# Altium footprint library con-wf.PcbLib: 46 footprints (part 2 of 3)
Each footprint in its own frame and in the unit in brackets; x right, y up, seen from the top. Pads: shape width x height; smd on the part's side, far side on the other; paste and mask are expansions set on the pad; w line width, h text height; cw(c..) or ccw(c..) is an arc to the next point about the centre after c.
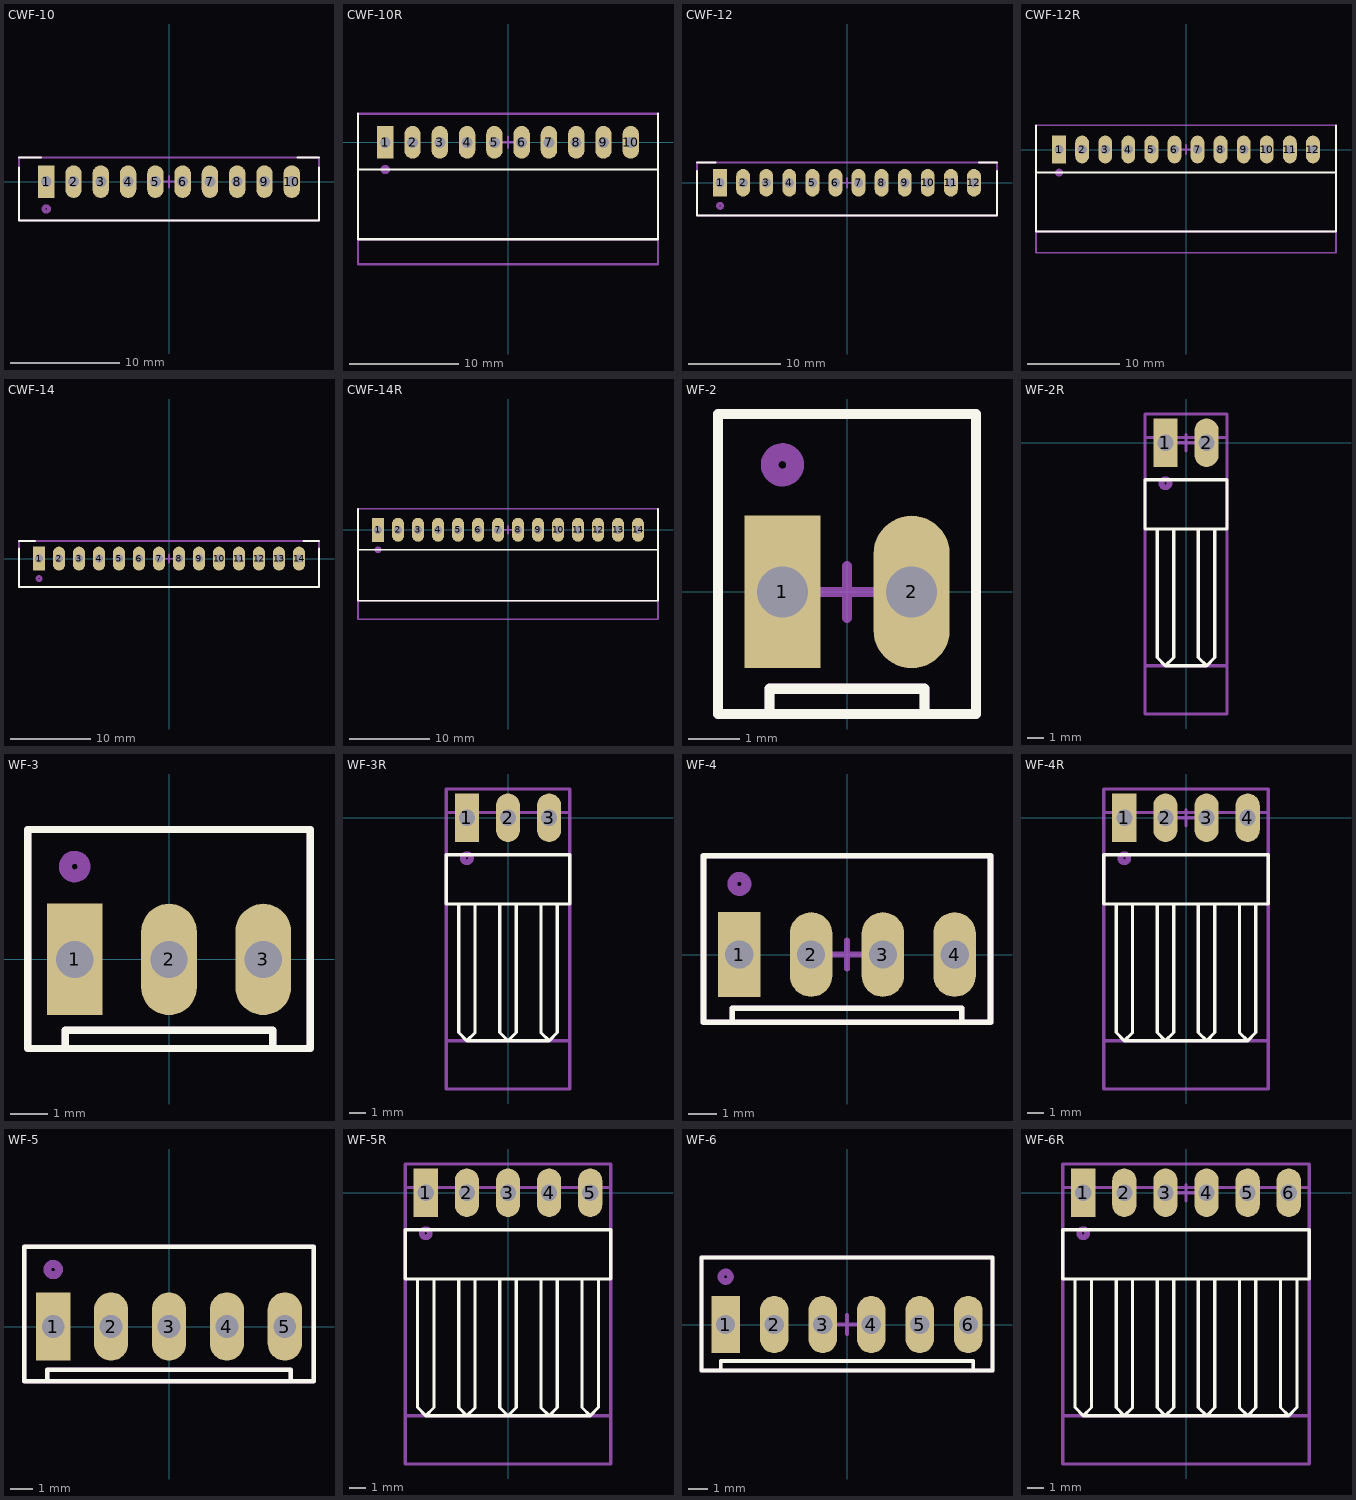
[diagram p1: the footprints below, top view; thin cyan lines are the x and y axes]

## CWF-10 [mm] "DS1069-10MV CONNFLY"
height 7
pads (10):
  rect 1.5x3 hole 1: 1(-11.25,0)
  oval 1.5x3 hole 1: 2(-8.75,0) 3(-6.25,0) 4(-3.75,0) 5(-1.25,0) 6(1.25,0) 7(3.75,0) 8(6.25,0) 9(8.75,0) 10(11.25,0)
Top Overlay:
  lines w0.2: -13.75,-3.55 13.75,-3.55 ; -13.75,-3.55 -13.75,1.3 -13.75,-3.55 ; -13.75,-3.55 13.75,-3.55 ; 13.75,-3.55 13.75,1.3 13.75,-3.55 ; -13.75,2.2 -11.75,2.2 -13.75,2.2 ; 11.81,2.2 13.75,2.2 11.81,2.2
Top Assembly (Mech3):
  circle w0.35: c-11.25,-2.5 r0.25
  rectangle: -11.78,-0.5 -10.749,0.5
  rectangle: -9.28,-0.5 -8.249,0.5
  rectangle: -6.78,-0.5 -5.749,0.5
  rectangle: -4.28,-0.5 -3.249,0.5
  rectangle: -1.78,-0.5 -0.749,0.5
  rectangle: 0.72,-0.5 1.751,0.5
  rectangle: 3.22,-0.5 4.251,0.5
  rectangle: 5.72,-0.5 6.751,0.5
  rectangle: 8.22,-0.5 9.251,0.5
  rectangle: 10.72,-0.5 11.751,0.5
  lines w0.2: -13.75,-3.55 -13.75,2.2 13.75,2.2 13.75,-3.55 -13.75,-3.55
Top Courtyard:
  lines w0.2: -13.75,-3.55 13.75,-3.55 ; -13.75,-3.55 -1.25,-3.55 -13.75,-3.55 ; -13.75,-3.55 -13.75,2.2 ; -13.75,-3.55 13.75,-3.55 ; -13.75,-3.55 -13.75,2.2 ; -13.75,2.2 13.75,2.2 ; -13.75,2.2 13.75,2.2 ; 13.75,-3.55 13.75,2.2 ; 13.75,-3.55 13.75,2.2 ; -0.508,0 0.508,0 -0.508,0 ; 0,-0.508 0,0.508 0,-0.508
3D body "DS1069-10 CWF-10.stp": height 7, standoff -3.5, extent -13.75,-3.55 13.75,2.2

## CWF-10R [mm] "DS1069-10MR CONNFLY"
height 5.75
pads (10):
  rect 1.5x3 hole 1: 1(-11.25,0)
  oval 1.5x3 hole 1: 2(-8.75,0) 3(-6.25,0) 4(-3.75,0) 5(-1.25,0) 6(1.25,0) 7(3.75,0) 8(6.25,0) 9(8.75,0) 10(11.25,0)
Top Overlay:
  lines w0.2: -13.75,-2.5 13.75,-2.5 ; -13.75,2.62 -13.75,-8.88 13.75,-8.88 13.75,2.62
Top Assembly (Mech3):
  circle w0.35: c-11.25,-2.5 r0.25
  lines w0.2: -13.75,-8.88 13.75,-8.88 13.75,2.62 -13.75,2.62 -13.75,-8.88
Top Courtyard:
  lines w0.2: -0.508,0 0.508,0 ; 0,-0.508 0,0.508 ; -13.75,-11.176 13.75,-11.176 13.75,2.62 -13.75,2.62 -13.75,-11.176
3D body "DS1069-10 CWF-10R.stp": height 5.75, standoff -3.5, extent -13.75,-8.88 13.75,2.62

## CWF-12 [mm] "DS1069-12MV CONNFLY"
height 7
pads (12):
  rect 1.5x3 hole 1: 1(-13.75,0)
  oval 1.5x3 hole 1: 2(-11.25,0) 3(-8.75,0) 4(-6.25,0) 5(-3.75,0) 6(-1.25,0) 7(1.25,0) 8(3.75,0) 9(6.25,0) 10(8.75,0) 11(11.25,0) 12(13.75,0)
Top Overlay:
  lines w0.2: -16.25,1.3 -16.25,-3.55 16.25,-3.55 16.25,1.3 ; -16.25,2.2 -14.25,2.2 ; 14.31,2.2 16.25,2.2
Top Assembly (Mech3):
  circle w0.35: c-13.75,-2.5 r0.25
  rectangle: -14.28,-0.5 -13.249,0.5
  rectangle: -11.78,-0.5 -10.749,0.5
  rectangle: -9.28,-0.5 -8.249,0.5
  rectangle: -6.78,-0.5 -5.749,0.5
  rectangle: -4.28,-0.5 -3.249,0.5
  rectangle: -1.78,-0.5 -0.749,0.5
  rectangle: 0.72,-0.5 1.751,0.5
  rectangle: 3.22,-0.5 4.251,0.5
  rectangle: 5.72,-0.5 6.751,0.5
  rectangle: 8.22,-0.5 9.251,0.5
  rectangle: 10.72,-0.5 11.751,0.5
  rectangle: 13.22,-0.5 14.251,0.5
  lines w0.2: -16.25,-3.55 -16.25,2.2 16.25,2.2 16.25,-3.55 -16.25,-3.55
Top Courtyard:
  lines w0.2: -16.25,-3.55 -16.25,2.2 16.25,2.2 ; -16.25,-3.55 -3.75,-3.55 -16.25,-3.55 ; -16.25,-3.55 16.25,-3.55 ; 16.25,-3.55 16.25,2.2 ; 16.25,-3.55 16.25,2.2 ; -0.508,0 0.508,0 -0.508,0 ; 0,-0.508 0,0.508 0,-0.508
3D body "DS1069-12 CWF-12.stp": height 7, standoff -3.5, extent -16.25,-3.55 16.25,2.2

## CWF-12R [mm] "DS1069-12MR CONNFLY"
height 5.75
pads (12):
  rect 1.5x3 hole 1: 1(-13.75,0)
  oval 1.5x3 hole 1: 2(-11.25,0) 3(-8.75,0) 4(-6.25,0) 5(-3.75,0) 6(-1.25,0) 7(1.25,0) 8(3.75,0) 9(6.25,0) 10(8.75,0) 11(11.25,0) 12(13.75,0)
Top Overlay:
  lines w0.2: -16.25,-2.5 16.25,-2.5 ; -16.25,2.62 -16.25,-8.88 16.25,-8.88 16.25,2.62
Top Assembly (Mech3):
  circle w0.35: c-13.75,-2.5 r0.25
  lines w0.2: -16.25,-8.88 -16.25,2.62 16.25,2.62 16.25,-8.88 -16.25,-8.88
Top Courtyard:
  lines w0.2: -0.508,0 0.508,0 ; 0,-0.508 0,0.508 ; -16.25,-11.176 -16.25,2.62 16.25,2.62 16.25,-11.176 -16.25,-11.176
3D body "DS1069-12 CWF-12R.stp": height 5.75, standoff -3.5, extent -16.25,-8.88 16.25,2.62

## CWF-14 [mm] "DS1069-14MV CONNFLY"
height 7
pads (14):
  rect 1.5x3 hole 1: 1(-16.25,0)
  oval 1.5x3 hole 1: 2(-13.75,0) 3(-11.25,0) 4(-8.75,0) 5(-6.25,0) 6(-3.75,0) 7(-1.25,0) 8(1.25,0) 9(3.75,0) 10(6.25,0) 11(8.75,0) 12(11.25,0) 13(13.75,0) 14(16.25,0)
Top Overlay:
  lines w0.2: -18.75,1.3 -18.75,-3.55 18.75,-3.55 18.75,1.3 ; -18.75,2.2 -16.75,2.2 ; 16.81,2.2 18.75,2.2
Top Assembly (Mech3):
  circle w0.35: c-16.25,-2.5 r0.25
  rectangle: -16.78,-0.5 -15.749,0.5
  rectangle: -14.28,-0.5 -13.249,0.5
  rectangle: -11.78,-0.5 -10.749,0.5
  rectangle: -9.28,-0.5 -8.249,0.5
  rectangle: -6.78,-0.5 -5.749,0.5
  rectangle: -4.28,-0.5 -3.249,0.5
  rectangle: -1.78,-0.5 -0.749,0.5
  rectangle: 0.72,-0.5 1.751,0.5
  rectangle: 3.22,-0.5 4.251,0.5
  rectangle: 5.72,-0.5 6.751,0.5
  rectangle: 8.22,-0.5 9.251,0.5
  rectangle: 10.72,-0.5 11.751,0.5
  rectangle: 13.22,-0.5 14.251,0.5
  rectangle: 15.72,-0.5 16.751,0.5
  lines w0.2: -18.75,-3.55 -18.75,2.2 18.75,2.2 18.75,-3.55 -18.75,-3.55
Top Courtyard:
  lines w0.2: -18.75,-3.55 -18.75,2.2 18.75,2.2 ; -18.75,-3.55 -6.25,-3.55 -18.75,-3.55 ; -18.75,-3.55 18.75,-3.55 ; 18.75,-3.55 18.75,2.2 ; 18.75,-3.55 18.75,2.2 ; -0.508,0 0.508,0 -0.508,0 ; 0,-0.508 0,0.508 0,-0.508
3D body "DS1069-14 CWF-14.stp": height 7, standoff -3.5, extent -18.75,-3.55 18.75,2.2

## CWF-14R [mm] "DS1069-14MR CONNFLY"
height 5.75
pads (14):
  rect 1.5x3 hole 1: 1(-16.25,0)
  oval 1.5x3 hole 1: 2(-13.75,0) 3(-11.25,0) 4(-8.75,0) 5(-6.25,0) 6(-3.75,0) 7(-1.25,0) 8(1.25,0) 9(3.75,0) 10(6.25,0) 11(8.75,0) 12(11.25,0) 13(13.75,0) 14(16.25,0)
Top Overlay:
  lines w0.2: -18.75,-2.5 18.75,-2.5 ; -18.75,2.62 -18.75,-8.88 18.75,-8.88 18.75,2.62
Top Assembly (Mech3):
  circle w0.35: c-16.25,-2.5 r0.25
  lines w0.2: -18.75,-8.88 18.75,-8.88 18.75,2.62 -18.75,2.62 -18.75,-8.88
Top Courtyard:
  lines w0.2: -0.508,0 0.508,0 ; 0,-0.508 0,0.508 ; -18.75,-11.176 18.75,-11.176 18.75,2.62 -18.75,2.62 -18.75,-11.176
3D body "DS1069-14 CWF-14R.stp": height 5.75, standoff -3.5, extent -18.75,-8.88 18.75,2.62

## WF-2 [mm] "DS1070-2MV CONNFLY"
height 11.6
pads (2):
  rect 1.5x3 hole 1: 1(-1.27,0)
  oval 1.5x3 hole 1: 2(1.27,0)
Top Overlay:
  lines w0.2: -1.524,-2.4 -1.524,-1.905 1.524,-1.905 1.524,-2.4 ; -2.54,-2.4 -2.54,3.5 2.54,3.5 2.54,-2.4 -2.54,-2.4
Top Assembly (Mech3):
  circle w0.35: c-1.27,2.5 r0.25
  rectangle: -1.8,-0.5 -0.769,0.5
  rectangle: 0.74,-0.5 1.771,0.5
  lines w0.2: -1.524,-2.4 -1.524,-1.905 1.524,-1.905 1.524,-2.4 ; -2.54,-2.4 -2.54,3.5 2.54,3.5 2.54,-2.4 -2.54,-2.4
Top Courtyard:
  lines w0.2: -0.508,0 0.508,0 ; 0,-0.508 0,0.508 ; -2.54,-2.4 -2.54,3.5 2.54,3.5 2.54,-2.4 -2.54,-2.4
3D body "DS1070-2 (WF-2 CONNFLY).stp": height 11.4, standoff -3.3, extent -2.54,-2.4 2.54,3.5

## WF-2R [mm] "DS1070-2MR CONNFLY"
height 5.8
pads (2):
  rect 1.5x3 hole 1: 1(-1.27,0)
  oval 1.5x3 hole 1: 2(1.27,0)
Top Overlay:
  lines w0.2: -1.778,-5.334 -1.778,-13.272 -1.27,-13.78 ; -0.762,-5.334 -0.762,-13.272 -1.27,-13.78 ; 0.762,-5.334 0.762,-13.272 1.27,-13.78 ; 1.778,-5.334 1.778,-13.272 1.27,-13.78 ; -1.27,-13.78 1.27,-13.78 ; -2.54,-5.334 -2.54,-2.286 2.54,-2.286 2.54,-5.334 -2.54,-5.334
Top Assembly (Mech3):
  circle w0.35: c-1.27,-2.5 r0.25
  lines w0.2: -2.54,-13.78 2.54,-13.78 2.54,0.32 -2.54,0.32 -2.54,-13.78
Top Courtyard:
  lines w0.2: -0.508,0 0.508,0 ; 0,-0.508 0,0.508 ; -2.54,-16.764 -2.54,1.778 2.54,1.778 2.54,-16.764 -2.54,-16.764
3D body "DS1070-2MR (WF-2RA CONNFLY).stp": height 5.9, standoff -3.4, extent -2.54,-13.78 2.54,0.32

## WF-3 [mm] "DS1070-3MV CONNFLY"
height 11.6
pads (3):
  rect 1.5x3 hole 1: 1(-2.54,0)
  oval 1.5x3 hole 1: 2(0,0) 3(2.54,0)
Top Overlay:
  lines w0.2: -2.794,-2.4 -2.794,-1.905 2.794,-1.905 2.794,-2.4 ; -3.81,-2.4 3.81,-2.4 3.81,3.5 -3.81,3.5 -3.81,-2.4
Top Assembly (Mech3):
  circle w0.35: c-2.54,2.5 r0.25
  rectangle: -3.07,-0.5 -2.039,0.5
  rectangle: -0.53,-0.5 0.501,0.5
  rectangle: 2.01,-0.5 3.041,0.5
  lines w0.2: -2.794,-2.4 -2.794,-1.905 2.794,-1.905 2.794,-2.4 ; -3.81,-2.4 3.81,-2.4 3.81,3.5 -3.81,3.5 -3.81,-2.4
Top Courtyard:
  lines w0.2: -0.508,0 0.508,0 ; 0,-0.508 0,0.508 ; -3.81,-2.4 -3.81,3.5 3.81,3.5 3.81,-2.4 -3.81,-2.4
3D body "DS1070-3 (WF-3 CONNFLY).stp": height 11.4, standoff -3.3, extent -3.81,-2.4 3.81,3.5

## WF-3R [mm] "DS1070-3MR CONNFLY"
height 5.8
pads (3):
  rect 1.5x3 hole 1: 1(-2.54,0)
  oval 1.5x3 hole 1: 2(0,0) 3(2.54,0)
Top Overlay:
  lines w0.2: -3.048,-5.334 -3.048,-13.272 -2.54,-13.78 ; -2.032,-5.334 -2.032,-13.272 -2.54,-13.78 ; -0.508,-5.334 -0.508,-13.272 0,-13.78 ; 0.508,-5.334 0.508,-13.272 0,-13.78 ; 2.032,-5.334 2.032,-13.272 2.54,-13.78 ; 3.048,-5.334 3.048,-13.272 2.54,-13.78 ; -2.54,-13.78 0,-13.78 ; 0,-13.78 2.54,-13.78 ; -3.81,-5.334 3.81,-5.334 3.81,-2.286 -3.81,-2.286 -3.81,-5.334
Top Assembly (Mech3):
  circle w0.35: c-2.54,-2.5 r0.25
  lines w0.2: -3.81,-13.78 3.81,-13.78 3.81,0.32 -3.81,0.32 -3.81,-13.78
Top Courtyard:
  lines w0.2: -0.508,0 0.508,0 ; 0,-0.508 0,0.508 ; -3.81,-16.764 3.81,-16.764 3.81,1.778 -3.81,1.778 -3.81,-16.764
3D body "DS1070-3MR (WF-3RA CONNFLY).stp": height 5.9, standoff -3.4, extent -3.81,-13.78 3.81,0.32

## WF-4 [mm] "DS1070-4MV CONNFLY"
height 11.6
pads (4):
  rect 1.5x3 hole 1: 1(-3.81,0)
  oval 1.5x3 hole 1: 2(-1.27,0) 3(1.27,0) 4(3.81,0)
Top Overlay:
  lines w0.2: -4.064,-2.4 -4.064,-1.905 4.064,-1.905 4.064,-2.4 ; -5.08,-2.4 -5.08,3.5 5.08,3.5 5.08,-2.4 -5.08,-2.4
Top Assembly (Mech3):
  circle w0.35: c-3.81,2.5 r0.25
  rectangle: -4.34,-0.5 -3.309,0.5
  rectangle: -1.8,-0.5 -0.769,0.5
  rectangle: 0.74,-0.5 1.771,0.5
  rectangle: 3.28,-0.5 4.311,0.5
  lines w0.2: -4.064,-2.4 -4.064,-1.905 4.064,-1.905 4.064,-2.4 ; -5.08,-2.4 5.08,-2.4 5.08,3.5 -5.08,3.5 -5.08,-2.4
Top Courtyard:
  lines w0.2: -0.508,0 0.508,0 ; 0,-0.508 0,0.508 ; -5.08,-2.4 5.08,-2.4 5.08,3.5 -5.08,3.5 -5.08,-2.4
3D body "DS1070-4 (WF-4 CONNFLY).stp": height 11.4, standoff -3.3, extent -5.08,-2.4 5.08,3.5

## WF-4R [mm] "DS1070-4MR CONNFLY"
height 5.8
pads (4):
  rect 1.5x3 hole 1: 1(-3.81,0)
  oval 1.5x3 hole 1: 2(-1.27,0) 3(1.27,0) 4(3.81,0)
Top Overlay:
  lines w0.2: -4.318,-5.334 -4.318,-13.272 -3.81,-13.78 ; -3.302,-5.334 -3.302,-13.272 -3.81,-13.78 ; -1.778,-5.334 -1.778,-13.272 -1.27,-13.78 ; -0.762,-5.334 -0.762,-13.272 -1.27,-13.78 ; 0.762,-5.334 0.762,-13.272 1.27,-13.78 ; 1.778,-5.334 1.778,-13.272 1.27,-13.78 ; 3.302,-5.334 3.302,-13.272 3.81,-13.78 ; 4.318,-5.334 4.318,-13.272 3.81,-13.78 ; -3.81,-13.78 -1.27,-13.78 ; -1.27,-13.78 1.27,-13.78 ; 1.27,-13.78 3.81,-13.78 ; -5.08,-5.334 5.08,-5.334 5.08,-2.286 -5.08,-2.286 -5.08,-5.334
Top Assembly (Mech3):
  circle w0.35: c-3.81,-2.5 r0.25
  lines w0.2: -5.08,-13.78 5.08,-13.78 5.08,0.32 -5.08,0.32 -5.08,-13.78
Top Courtyard:
  lines w0.2: -0.508,0 0.508,0 ; 0,-0.508 0,0.508 ; -5.08,-16.764 5.08,-16.764 5.08,1.778 -5.08,1.778 -5.08,-16.764
3D body "DS1070-4MR (WF-4RA CONNFLY).stp": height 5.9, standoff -3.4, extent -5.08,-13.78 5.08,0.32

## WF-5 [mm] "DS1070-5MV CONNFLY"
height 11.6
pads (5):
  rect 1.5x3 hole 1: 1(-5.08,0)
  oval 1.5x3 hole 1: 2(-2.54,0) 3(0,0) 4(2.54,0) 5(5.08,0)
Top Overlay:
  lines w0.2: -5.334,-2.4 -5.334,-1.905 5.334,-1.905 5.334,-2.4 ; -6.35,-2.4 6.35,-2.4 6.35,3.5 -6.35,3.5 -6.35,-2.4
Top Assembly (Mech3):
  circle w0.35: c-5.08,2.5 r0.25
  rectangle: -5.61,-0.5 -4.579,0.5
  rectangle: -3.07,-0.5 -2.039,0.5
  rectangle: -0.53,-0.5 0.501,0.5
  rectangle: 2.01,-0.5 3.041,0.5
  rectangle: 4.55,-0.5 5.581,0.5
  lines w0.2: -5.334,-2.4 -5.334,-1.905 5.334,-1.905 5.334,-2.4 ; -6.35,-2.4 6.35,-2.4 6.35,3.5 -6.35,3.5 -6.35,-2.4
Top Courtyard:
  lines w0.2: -0.508,0 0.508,0 ; 0,-0.508 0,0.508 ; -6.35,-2.4 -6.35,3.5 6.35,3.5 6.35,-2.4 -6.35,-2.4
3D body "DS1070-5 (WF-5 CONNFLY).stp": height 11.4, standoff -3.3, extent -6.35,-2.4 6.35,3.5

## WF-5R [mm] "DS1070-5MR CONNFLY"
height 5.8
pads (5):
  rect 1.5x3 hole 1: 1(-5.08,0)
  oval 1.5x3 hole 1: 2(-2.54,0) 3(0,0) 4(2.54,0) 5(5.08,0)
Top Overlay:
  lines w0.2: -5.588,-5.334 -5.588,-13.272 -5.08,-13.78 ; -4.572,-5.334 -4.572,-13.272 -5.08,-13.78 ; -3.048,-5.334 -3.048,-13.272 -2.54,-13.78 ; -2.032,-5.334 -2.032,-13.272 -2.54,-13.78 ; -0.508,-5.334 -0.508,-13.272 0,-13.78 ; 0.508,-5.334 0.508,-13.272 0,-13.78 ; 2.032,-5.334 2.032,-13.272 2.54,-13.78 ; 3.048,-5.334 3.048,-13.272 2.54,-13.78 ; 4.572,-5.334 4.572,-13.272 5.08,-13.78 ; 5.588,-5.334 5.588,-13.272 5.08,-13.78 ; -5.08,-13.78 -2.54,-13.78 ; -2.54,-13.78 0,-13.78 ; 0,-13.78 2.54,-13.78 ; 2.54,-13.78 5.08,-13.78 ; -6.35,-5.334 -6.35,-2.286 6.35,-2.286 6.35,-5.334 -6.35,-5.334
Top Assembly (Mech3):
  circle w0.35: c-5.08,-2.5 r0.25
  lines w0.2: -6.35,-13.78 6.35,-13.78 6.35,0.32 -6.35,0.32 -6.35,-13.78
Top Courtyard:
  lines w0.2: -0.508,0 0.508,0 ; 0,-0.508 0,0.508 ; -6.35,-16.764 -6.35,1.778 6.35,1.778 6.35,-16.764 -6.35,-16.764
3D body "DS1070-5MR (WF-5RA CONNFLY).stp": height 5.9, standoff -3.4, extent -6.35,-13.78 6.35,0.32

## WF-6 [mm] "DS1070-6MV CONNFLY"
height 11.6
pads (6):
  rect 1.5x3 hole 1: 1(-6.35,0)
  oval 1.5x3 hole 1: 2(-3.81,0) 3(-1.27,0) 4(1.27,0) 5(3.81,0) 6(6.35,0)
Top Overlay:
  lines w0.2: -6.604,-2.4 -6.604,-1.905 6.604,-1.905 6.604,-2.4 ; -7.62,-2.4 7.62,-2.4 7.62,3.5 -7.62,3.5 -7.62,-2.4
Top Assembly (Mech3):
  circle w0.35: c-6.35,2.5 r0.25
  rectangle: -6.88,-0.5 -5.849,0.5
  rectangle: -4.34,-0.5 -3.309,0.5
  rectangle: -1.8,-0.5 -0.769,0.5
  rectangle: 0.74,-0.5 1.771,0.5
  rectangle: 3.28,-0.5 4.311,0.5
  rectangle: 5.82,-0.5 6.851,0.5
  lines w0.2: -6.604,-2.4 -6.604,-1.905 6.604,-1.905 6.604,-2.4 ; -7.62,-2.4 7.62,-2.4 7.62,3.5 -7.62,3.5 -7.62,-2.4
Top Courtyard:
  lines w0.2: -0.508,0 0.508,0 ; 0,-0.508 0,0.508 ; -7.62,-2.4 -7.62,3.5 7.62,3.5 7.62,-2.4 -7.62,-2.4
3D body "DS1070-6 (WF-6 CONNFLY).stp": height 11.4, standoff -3.3, extent -7.62,-2.4 7.62,3.5

## WF-6R [mm] "DS1070-6MR CONNFLY"
height 5.8
pads (6):
  rect 1.5x3 hole 1: 1(-6.35,0)
  oval 1.5x3 hole 1: 2(-3.81,0) 3(-1.27,0) 4(1.27,0) 5(3.81,0) 6(6.35,0)
Top Overlay:
  lines w0.2: -6.858,-5.334 -6.858,-13.272 -6.35,-13.78 ; -5.842,-5.334 -5.842,-13.272 -6.35,-13.78 ; -4.318,-5.334 -4.318,-13.272 -3.81,-13.78 ; -3.302,-5.334 -3.302,-13.272 -3.81,-13.78 ; -1.778,-5.334 -1.778,-13.272 -1.27,-13.78 ; -0.762,-5.334 -0.762,-13.272 -1.27,-13.78 ; 0.762,-5.334 0.762,-13.272 1.27,-13.78 ; 1.778,-5.334 1.778,-13.272 1.27,-13.78 ; 3.302,-5.334 3.302,-13.272 3.81,-13.78 ; 4.318,-5.334 4.318,-13.272 3.81,-13.78 ; 5.842,-5.334 5.842,-13.272 6.35,-13.78 ; 6.858,-5.334 6.858,-13.272 6.35,-13.78 ; -6.35,-13.78 -3.81,-13.78 ; -3.81,-13.78 -1.27,-13.78 ; -1.27,-13.78 1.27,-13.78 ; 1.27,-13.78 3.81,-13.78 ; 3.81,-13.78 6.35,-13.78 ; -7.62,-5.334 7.62,-5.334 7.62,-2.286 -7.62,-2.286 -7.62,-5.334
Top Assembly (Mech3):
  circle w0.35: c-6.35,-2.5 r0.25
  lines w0.2: -7.62,-13.78 7.62,-13.78 7.62,0.32 -7.62,0.32 -7.62,-13.78
Top Courtyard:
  lines w0.2: -0.508,0 0.508,0 ; 0,-0.508 0,0.508 ; -7.62,-16.764 7.62,-16.764 7.62,1.778 -7.62,1.778 -7.62,-16.764
3D body "DS1070-6MR (WF-6RA CONNFLY).stp": height 5.9, standoff -3.4, extent -7.62,-13.78 7.62,0.32